# EAGLE library part LMZ14201TZ-ADJ/NOPB (library PTN78000WAH)
BUCK, 42VIN, 1A, 6W, 0.8V TO 6V, 7TOPMOD
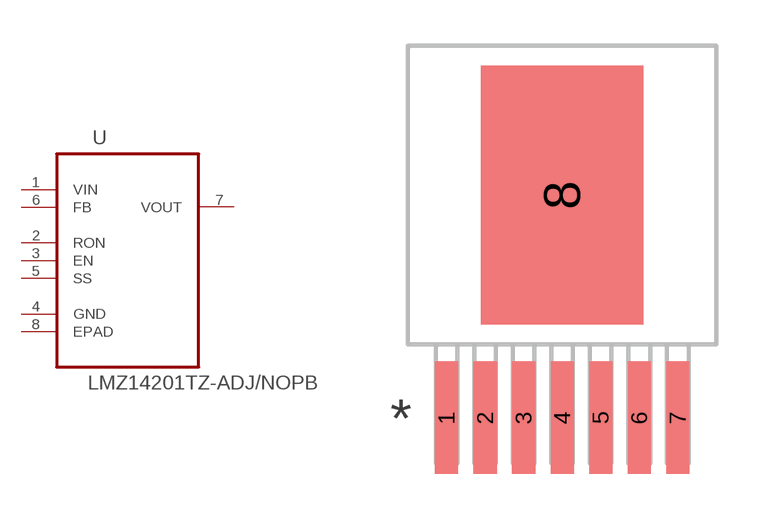
[diagram p3: symbol with the pads of TI_TO-PMOD-7; footprint TI_TO-PMOD-7]

Designator prefix U

## LMZ14201TZ-ADJ/NOPB (MPN: LMZ14201TZ-ADJ/NOPB; OC_FARNELL: 2112612; OC_NEWARK: 77R5185; PACKAGE: TO-PMOD-7; SUPPLIER: TEXAS INSTRUMENTS)  [TI_TO-PMOD-7]
1  VIN  pwr
2  RON  in
3  EN  in
4  GND  pas
5  SS  in
6  FB  in
7  VOUT  out
8  EPAD  pas

## Footprint TI_TO-PMOD-7 (pad centres in mm)
smd 0.762 x 3.708: 1 -3.81,-7.341; 2 -2.54,-7.341; 3 -1.27,-7.341; 4 0,-7.341; 5 1.27,-7.341; 6 2.54,-7.341; 7 3.81,-7.341
smd 5.35 x 8.54: 8 0,0